# EAGLE library part A6276EA-T (library Allegro_By_element14_Batch_1)
16-Bit Serial Input, Constant-Current Latched LED Driver
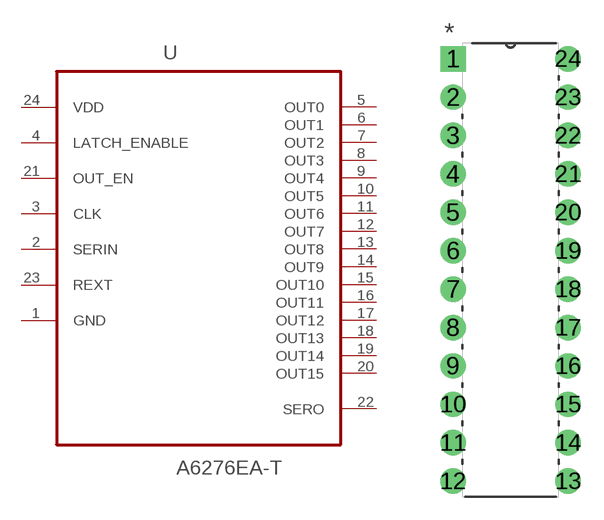
[diagram p20: symbol with the pads of DIP254P762X533-24; footprint DIP254P762X533-24]

Designator prefix U

## A6276EA-T (MPN: A6276EA-T; OC_FARNELL: -; OC_NEWARK: 87K3398; PACKAGE: PDIP-24; SUPPLIER: ALLEGRO MICROSYSTEMS)  [DIP254P762X533-24]
1  GND  pas
2  SERIN  in
3  CLK  in
4  LATCH_ENABLE  in
5  OUT0  out
6  OUT1  out
7  OUT2  out
8  OUT3  out
9  OUT4  out
10  OUT5  out
11  OUT6  out
12  OUT7  out
13  OUT8  out
14  OUT9  out
15  OUT10  out
16  OUT11  out
17  OUT12  out
18  OUT13  out
19  OUT14  out
20  OUT15  out
21  OUT_EN  in
22  SERO  out
23  REXT  pas
24  VDD  pwr

## Footprint DIP254P762X533-24 (pad centres in mm)
drill 1.118 square: 1 -7.62,27.94
drill 1.118: 2 -7.62,25.4; 3 -7.62,22.86; 4 -7.62,20.32; 5 -7.62,17.78; 6 -7.62,15.24; 7 -7.62,12.7; 8 -7.62,10.16; 9 -7.62,7.62; 10 -7.62,5.08; 11 -7.62,2.54; 12 -7.62,0; 13 0,0; 14 0,2.54; 15 0,5.08; 16 0,7.62; 17 0,10.16; 18 0,12.7; 19 0,15.24; 20 0,17.78; 21 0,20.32; 22 0,22.86; 23 0,25.4; 24 0,27.94